# Altium schematic symbol library RT424012.SchLib: 1 symbol
Pins are listed as number, name and electrical type; pins without a type are passive.

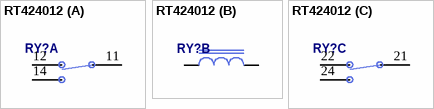
[diagram p0: symbol RT424012]

## RT424012
designator RY?  (value not drawn)
part A pins: 11 COM1, 12 NC1, 14 NO1
part B pins: A1, A2
part C pins: 21 COM2, 22 NC2, 24 NO2